# EAGLE library part DS8500 (library maxim)
HART Modem Single-Chip, Half-Duplex, 1200bps FSK Modulation and Demodulation Source: http://datasheets.maxim-ic.com/en/ds/DS8500.pdf
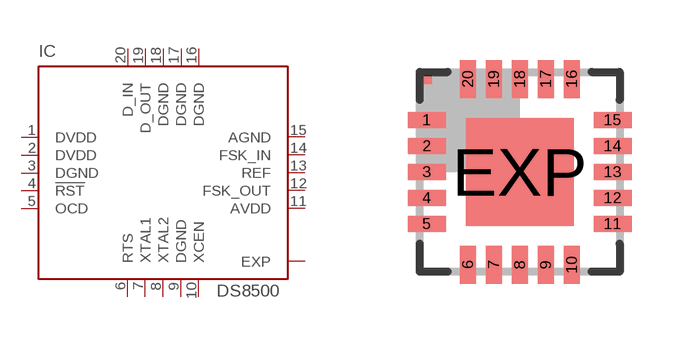
[diagram p225: symbol with the pads of TQFN20-5X5; footprint TQFN20-5X5]

Designator prefix IC

## DS8500 (MPN: DS8500-JND+; OC_FARNELL: unknown; OC_NEWARK: 19P9102)  [TQFN20-5X5]
1  DVDD  pwr
2  DVDD  pwr
3  DGND  pwr
4  !RST
5  OCD  out
6  RTS  in
7  XTAL1  in
8  XTAL2  out
9  DGND  pwr
10  XCEN  in
11  AVDD  in
12  FSK_OUT  out
13  REF  out
14  FSK_IN  in
15  AGND  in
16  DGND  pwr
17  DGND  pwr
18  DGND  pwr
19  D_OUT  out
20  D_IN  in
EXP  EXP  pas

## Footprint TQFN20-5X5 (pad centres in mm)
THIN QFN 20 5x5x0.75mm Source: http://pdfserv.maxim-ic.com/package_dwgs/21-0140.PDF
smd 0.95 x 0.4: 1 -2.325,1.3; 2 -2.325,0.65; 3 -2.325,0; 4 -2.325,-0.65; 5 -2.325,-1.3; 11 2.325,-1.3; 12 2.325,-0.65; 13 2.325,0; 14 2.325,0.65; 15 2.325,1.3
smd 0.4 x 0.95: 6 -1.3,-2.325; 7 -0.65,-2.325; 8 0,-2.325; 9 0.65,-2.325; 10 1.3,-2.325; 16 1.3,2.325; 17 0.65,2.325; 18 0,2.325; 19 -0.65,2.325; 20 -1.3,2.325
smd 2.7 x 2.7: EXP 0,0